# Altium footprint library ES_Pcb.PcbLib: 383 footprints (part 3 of 24)
Each footprint in its own frame and in the unit in brackets; x right, y up, seen from the top. Pads: shape width x height; smd on the part's side, far side on the other; paste and mask are expansions set on the pad; w line width, h text height; cw(c..) or ccw(c..) is an arc to the next point about the centre after c.
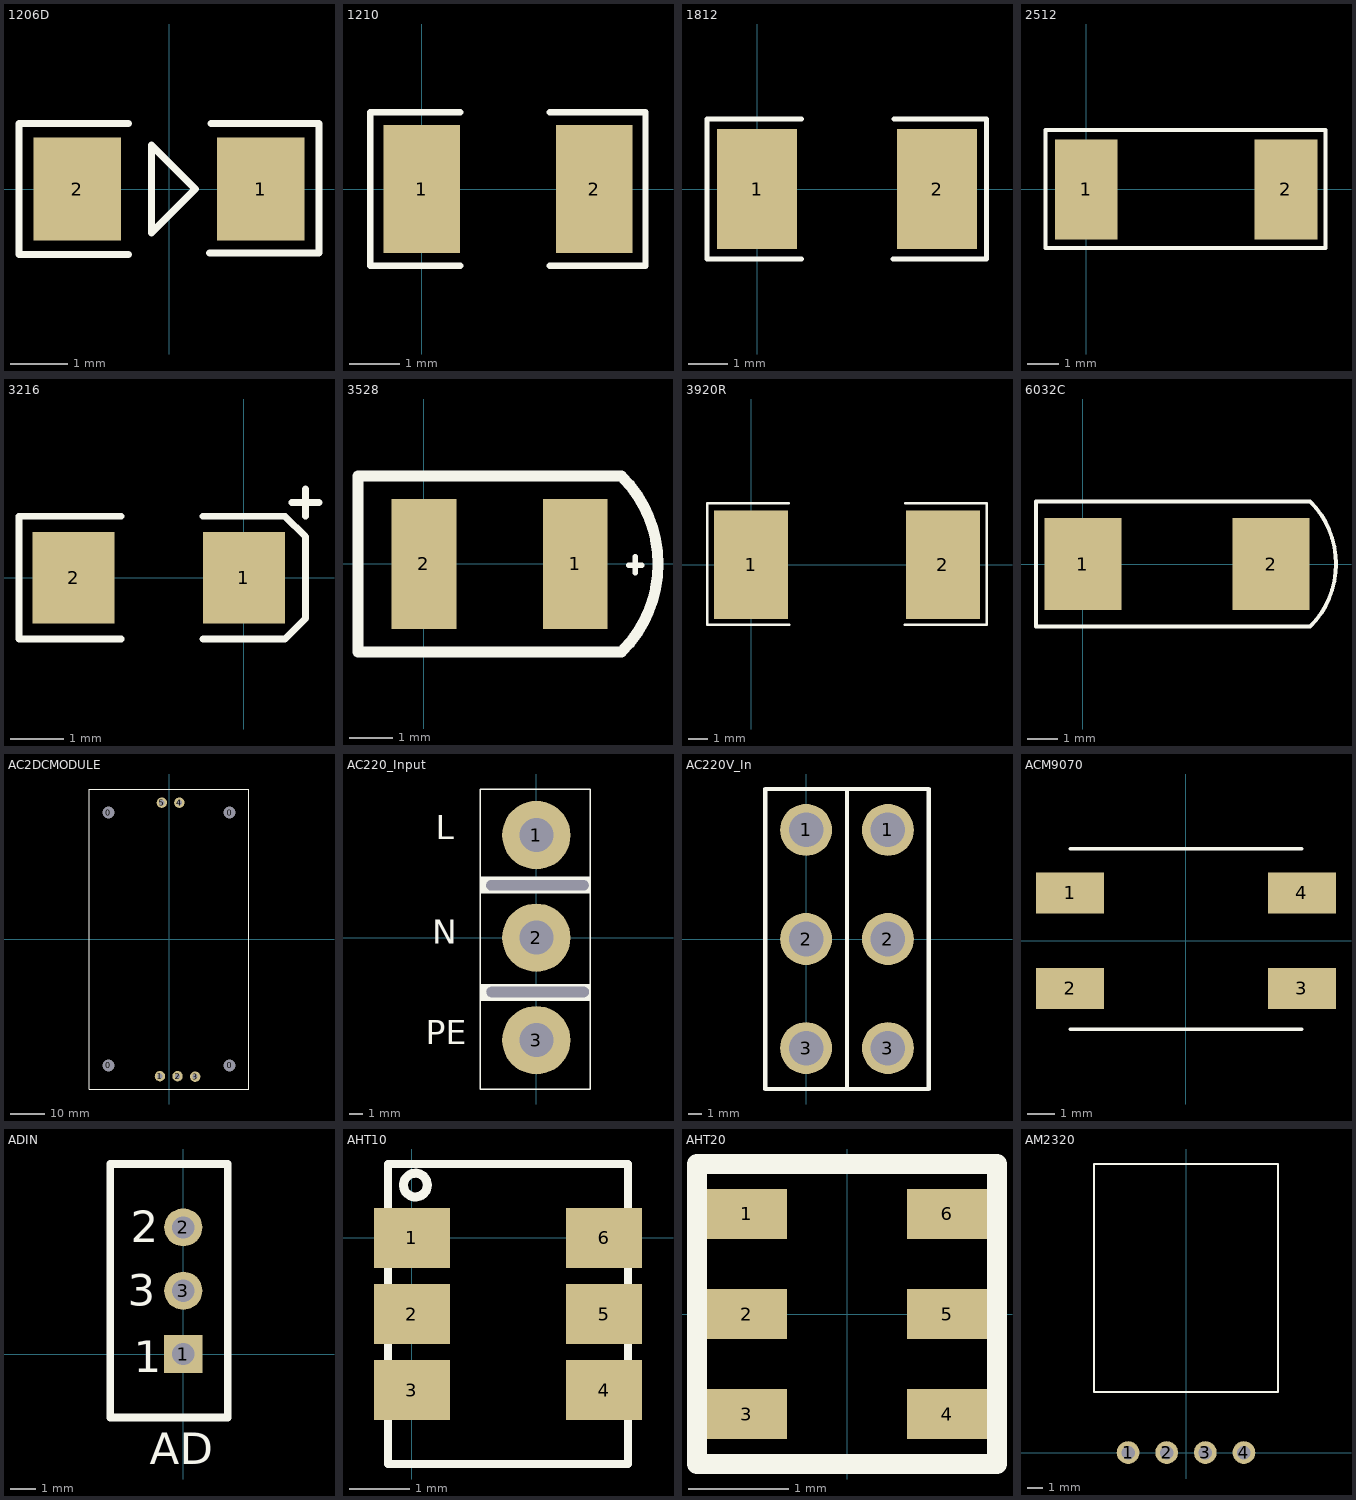
[diagram p2: the footprints below, top view; thin cyan lines are the x and y axes]

## 1206D [mm]
pads (2):
  rect 1.524x1.8 smd: 1(1.6,0) 2(-1.6,0)
Top Overlay:
  lines w0.127: -0.711,-1.143 -2.616,-1.143 -2.616,1.143 -0.711,1.143 ; 0.711,-1.118 2.616,-1.118 2.616,1.143 0.736,1.143 ; -0.305,-0.762 -0.305,0.762 0.457,0 -0.305,-0.762

## 1210 [mil]
pads (2):
  rect 60x100 smd: 1(0,0) 2(134.8,0)
Top Overlay:
  lines w5: 30,-60 -40.28,-60 -40.28,60 30,60 ; 100,-60 175,-60 175,60 100,60

## 1812 [mil]
pads (2):
  rect 80x120 smd: 1(0,0) 2(180,0)
Top Overlay:
  lines w5: -50.2,-70 44.29,-70 ; -50.2,-69.88 -50.2,69.88 ; -50.2,70 44.29,70 ; 135.83,-70 229.33,-70 ; 136.81,70 229.33,70 ; 229.33,-69.88 229.33,68.9

## 2512 [mm]
pads (2):
  rect 2x3.2 smd: 1(0,0) 2(6.4,0)
Top Overlay:
  lines w0.127: -1.295,-1.88 -1.295,1.905 7.671,1.905 7.671,-1.88 ; -1.27,-1.88 7.645,-1.88

## 3216 [mm]
pads (2):
  rect 1.524x1.7 smd: 1(0,0) 2(-3.175,0)
Top Overlay:
  lines w0.127: -2.286,-1.143 -4.191,-1.143 -4.191,1.143 -2.286,1.143 ; -0.762,-1.143 0.762,-1.143 1.143,-0.762 1.143,0.762 0.762,1.143 -0.762,1.143 ; 0.889,1.397 1.397,1.397 ; 1.143,1.143 1.143,1.651

## 3528 [mm]
pads (2):
  rect 1.5x3 smd: 1(3.5,0) 2(0,0)
Top Overlay:
  lines w0.127: 4.735,-0.027 5.035,-0.027 ; 4.885,-0.202 4.885,0.173
  lines w0.254: -1.524,-2.032 4.572,-2.032 ccw(c2.54,0) 4.572,2.032 -1.524,2.032 -1.524,-2.032

## 3920R [mil]
pads (2):
  rect 150x220 smd: 1(0,0) 2(390,0)
Top Overlay:
  lines w5: 76.77,125 -89.57,125 -89.57,-122.05 77.76,-122.05 ; 312.01,-122.05 479.33,-122.05 479.33,125 312.99,125

## 6032C [mm]
pads (2):
  rect 2.5x3 smd: 1(0,0) 2(6.1,0)
Top Overlay:
  lines w0.127: -1.524,-2.032 7.366,-2.032 ccw(c5.334,0) 7.366,2.032 -1.524,2.032 -1.524,-2.032

## AC2DCMODULE [mm]
pads (9):
  round 3 hole 3.5: 0(-17.5,-36.5) 0(-17.5,36.5) 0(17.5,-36.5) 0(17.5,36.5)
  round 3 hole 1.5: 1(-2.616,-39.599) 2(2.464,-39.599) 3(7.544,-39.726) 4(2.997,39.345) 5(-2.083,39.345)
Top Overlay:
  lines w0.127: -23,-43.3 23,-43.3 23,43.3 -23,43.3 -23,-43.3

## AC220_Input [mil]
pads (5):
  round 200 hole 100: 1(0,300) 2(0,0) 3(0,-300)
  rect 0x0 hole 30 slot 300 at 0 deg: 7(3,153) 8(4,-159)
Top Overlay:
  region: 156,-135 -166,-135 -166,-185 156,-185
  region: 158,179 -164,179 -164,129 158,129
  lines w3.94: -164,-443 -164,435 158,435 158,-443 -164,-443
  text "L" at -295,264 h120
  text "N" at -305,-42 h120
  text "PE" at -324,-335 h120

## AC220V_In [mm]
pads (6):
  round 3.81 hole 2.54: 1(0,8) 1(5.994,8) 2(0,0) 2(5.994,0) 3(0,-8) 3(5.994,-8)
Top Overlay:
  lines w0.3: -3,-11 3,-11 3,11 -3,11 -3,-11 ; 2.994,-11 2.994,11 8.994,11 8.994,-11 2.994,-11

## ACM9070 [mm]
pads (4):
  rect 2.5x1.5 smd: 1(-4.25,1.75) 2(-4.25,-1.75) 3(4.25,-1.75) 4(4.25,1.75)
Top Overlay:
  lines w0.127: -4.25,-3.25 4.25,-3.25 ; -4.25,3.375 4.25,3.375

## ADIN [mil]
pads (3):
  rect 60x60 hole 35: 1(0,0)
  round 60 hole 35: 2(0,200) 3(0,100)
Top Overlay:
  lines w12: -115,-100 70,-100 70,300 -115,300 -115,-100
  text "2" at -82.83,176.61 h50
  text "3" at -87.83,76.61 h50
  text "1" at -77.83,-28.39 h50
  text "AD" at -52.83,-173.39 h50

## AHT10 [mm]
pads (6):
  rect 1.27x1 smd: 1(0,0) 2(0,-1.27) 3(0,-2.54) 4(3.2,-2.54) 5(3.2,-1.27) 6(3.2,0)
Top Overlay:
  circle w0.15: c0.057,0.878 r0.198
  lines w0.127: -0.4,-3.77 3.6,-3.77 3.6,1.23 -0.4,1.23 -0.4,-3.77

## AHT20 [mm]
pads (6):
  rect 0.8x0.5 smd: 1(-1,1) 2(-1,0) 3(-1,-1) 4(1,-1) 5(1,0) 6(1,1)
Top Overlay:
  lines w0.2: -1.5,-1.5 -1.5,1.5 1.5,1.5 1.5,-1.5 -1.5,-1.5

## AM2320 [mm]
pads (4):
  round 1.5 hole 0.9: 1(-3.81,0) 2(-1.27,0) 3(1.27,0) 4(3.81,0)
Top Overlay:
  lines w0.127: -6.05,4 6.05,4 6.05,19 -6.05,19 -6.05,4